# EAGLE library part EPF10K100A-P240 (library altera)
EPF10K100 FLEX 10K family
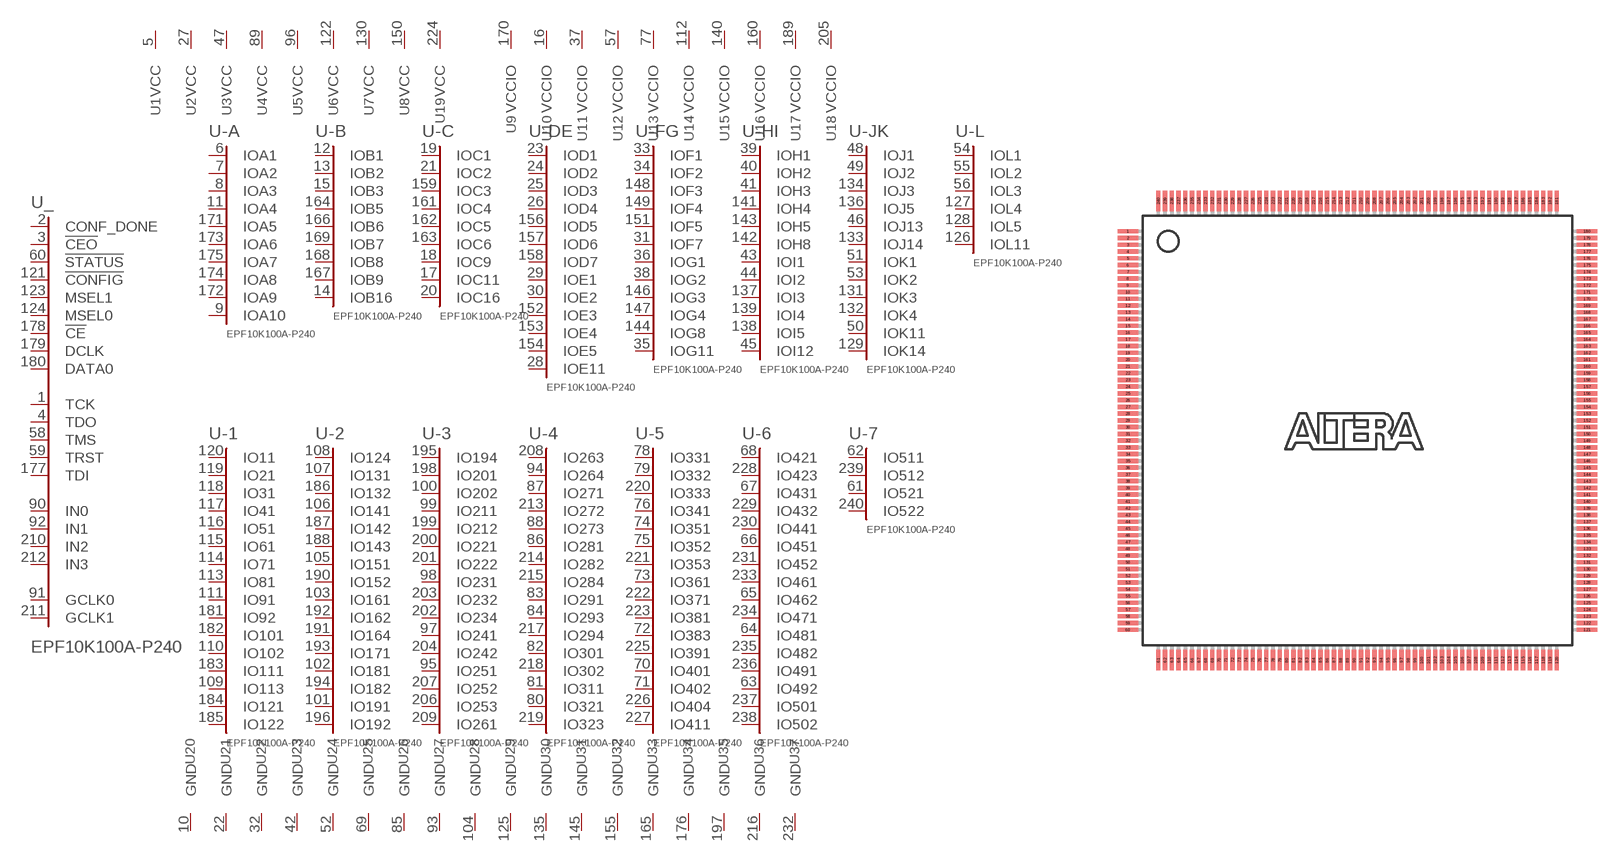
[diagram p42: symbol with the pads of PQFP240; footprint PQFP240]

Designator prefix U; gates _=100R240C -A=A10-10 -B=B16-100 -C=C16-100 -DE=D7E11 -FG=F7G11 -HI=H8I12 -JK=J14K14 -L=L11-100 -1=122-100R -2=192-100R -3=261-100R -4=323-100R -5=411-100R -6=502-100R -7=522-100R 1=VCCINT 2=VCCINT 3=VCCINT 4=VCCINT 5=VCCINT 6=VCCINT 7=VCCINT 8=VCCINT 9=VCCIO 10=VCCIO 11=VCCIO 12=VCCIO 13=VCCIO 14=VCCIO 15=VCCIO 16=VCCIO 17=VCCIO 18=VCCIO 20=GND 21=GND 22=GND 23=GND 24=GND 25=GND 26=GND 27=GND 28=GND 29=GND 30=GND 31=GND 32=GND 33=GND 34=GND 35=GND 36=GND 37=GND 19=VCC

## EPF10K100A-P240  [PQFP240]
1  _:TCK
2  _:CONF_DONE  in
3  _:!CEO!  in
4  _:TDO
5  1:VCC  pwr
6  -A:IOA1
7  -A:IOA2
8  -A:IOA3
9  -A:IOA10
10  20:GND  pwr
11  -A:IOA4
12  -B:IOB1
13  -B:IOB2
14  -B:IOB16
15  -B:IOB3
16  10:VCCIO  pwr
17  -C:IOC11
18  -C:IOC9
19  -C:IOC1
20  -C:IOC16
21  -C:IOC2
22  21:GND  pwr
23  -DE:IOD1
24  -DE:IOD2
25  -DE:IOD3
26  -DE:IOD4
27  2:VCC  pwr
28  -DE:IOE11
29  -DE:IOE1
30  -DE:IOE2
31  -FG:IOF7
32  22:GND  pwr
33  -FG:IOF1
34  -FG:IOF2
35  -FG:IOG11
36  -FG:IOG1
37  11:VCCIO  pwr
38  -FG:IOG2
39  -HI:IOH1
40  -HI:IOH2
41  -HI:IOH3
42  23:GND  pwr
43  -HI:IOI1
44  -HI:IOI2
45  -HI:IOI12
46  -JK:IOJ13
47  3:VCC  pwr
48  -JK:IOJ1
49  -JK:IOJ2
50  -JK:IOK11
51  -JK:IOK1
52  24:GND  pwr
53  -JK:IOK2
54  -L:IOL1
55  -L:IOL2
56  -L:IOL3
57  12:VCCIO  pwr
58  _:TMS
59  _:TRST
60  _:!STATUS!  in
61  -7:IO521
62  -7:IO511
63  -6:IO492
64  -6:IO481
65  -6:IO462
66  -6:IO451
67  -6:IO431
68  -6:IO421
69  25:GND  pwr
70  -5:IO401
71  -5:IO402
72  -5:IO383
73  -5:IO361
74  -5:IO351
75  -5:IO352
76  -5:IO341
77  13:VCCIO  pwr
78  -5:IO331
79  -5:IO332
80  -4:IO321
81  -4:IO311
82  -4:IO301
83  -4:IO291
84  -4:IO293
85  26:GND  pwr
86  -4:IO281
87  -4:IO271
88  -4:IO273
89  4:VCC  pwr
90  _:IN0  in
91  _:GCLK0  in
92  _:IN1  in
93  27:GND  pwr
94  -4:IO264
95  -3:IO251
96  5:VCC  pwr
97  -3:IO241
98  -3:IO231
99  -3:IO211
100  -3:IO202
101  -2:IO191
102  -2:IO181
103  -2:IO161
104  28:GND  pwr
105  -2:IO151
106  -2:IO141
107  -2:IO131
108  -2:IO124
109  -1:IO113
110  -1:IO102
111  -1:IO91
112  14:VCCIO  pwr
113  -1:IO81
114  -1:IO71
115  -1:IO61
116  -1:IO51
117  -1:IO41
118  -1:IO31
119  -1:IO21
120  -1:IO11
121  _:!CONFIG!  in
122  6:VCC  pwr
123  _:MSEL1  in
124  _:MSEL0  in
125  29:GND  pwr
126  -L:IOL11
127  -L:IOL4
128  -L:IOL5
129  -JK:IOK14
130  7:VCC  pwr
131  -JK:IOK3
132  -JK:IOK4
133  -JK:IOJ14
134  -JK:IOJ3
135  30:GND  pwr
136  -JK:IOJ5
137  -HI:IOI3
138  -HI:IOI5
139  -HI:IOI4
140  15:VCCIO  pwr
141  -HI:IOH4
142  -HI:IOH8
143  -HI:IOH5
144  -FG:IOG8
145  31:GND  pwr
146  -FG:IOG3
147  -FG:IOG4
148  -FG:IOF3
149  -FG:IOF4
150  8:VCC  pwr
151  -FG:IOF5
152  -DE:IOE3
153  -DE:IOE4
154  -DE:IOE5
155  32:GND  pwr
156  -DE:IOD5
157  -DE:IOD6
158  -DE:IOD7
159  -C:IOC3
160  16:VCCIO  pwr
161  -C:IOC4
162  -C:IOC5
163  -C:IOC6
164  -B:IOB5
165  33:GND  pwr
166  -B:IOB6
167  -B:IOB9
168  -B:IOB8
169  -B:IOB7
170  9:VCCIO  pwr
171  -A:IOA5
172  -A:IOA9
173  -A:IOA6
174  -A:IOA8
175  -A:IOA7
176  34:GND  pwr
177  _:TDI
178  _:!CE!  in
179  _:DCLK  in
180  _:DATA0  in
181  -1:IO92
182  -1:IO101
183  -1:IO111
184  -1:IO121
185  -1:IO122
186  -2:IO132
187  -2:IO142
188  -2:IO143
189  17:VCCIO  pwr
190  -2:IO152
191  -2:IO164
192  -2:IO162
193  -2:IO171
194  -2:IO182
195  -3:IO194
196  -2:IO192
197  35:GND  pwr
198  -3:IO201
199  -3:IO212
200  -3:IO221
201  -3:IO222
202  -3:IO234
203  -3:IO232
204  -3:IO242
205  18:VCCIO  pwr
206  -3:IO253
207  -3:IO252
208  -4:IO263
209  -3:IO261
210  _:IN2  in
211  _:GCLK1  in
212  _:IN3  in
213  -4:IO272
214  -4:IO282
215  -4:IO284
216  36:GND  pwr
217  -4:IO294
218  -4:IO302
219  -4:IO323
220  -5:IO333
221  -5:IO353
222  -5:IO371
223  -5:IO381
224  19:VCC  pwr
225  -5:IO391
226  -5:IO404
227  -5:IO411
228  -6:IO423
229  -6:IO432
230  -6:IO441
231  -6:IO452
232  37:GND  pwr
233  -6:IO461
234  -6:IO471
235  -6:IO482
236  -6:IO491
237  -6:IO501
238  -6:IO502
239  -7:IO512
240  -7:IO522

## Footprint PQFP240 (pad centres in mm)
Plastic Quad Flat Pack
smd 1.5 x 0.32: 1 -17,14.75; 2 -17,14.25; 3 -17,13.75; 4 -17,13.25; 5 -17,12.75; 6 -17,12.25; 7 -17,11.75; 8 -17,11.25; 9 -17,10.75; 10 -17,10.25; 11 -17,9.75; 12 -17,9.25; 13 -17,8.75; 14 -17,8.25; 15 -17,7.75; 16 -17,7.25; 17 -17,6.75; 18 -17,6.25; 19 -17,5.75; 20 -17,5.25; 21 -17,4.75; 22 -17,4.25; 23 -17,3.75; 24 -17,3.25; 25 -17,2.75; 26 -17,2.25; 27 -17,1.75; 28 -17,1.25; 29 -17,0.75; 30 -17,0.25; 31 -17,-0.25; 32 -17,-0.75; 33 -17,-1.25; 34 -17,-1.75; 35 -17,-2.25; 36 -17,-2.75; 37 -17,-3.25; 38 -17,-3.75; 39 -17,-4.25; 40 -17,-4.75; 41 -17,-5.25; 42 -17,-5.75; 43 -17,-6.25; 44 -17,-6.75; 45 -17,-7.25; 46 -17,-7.75; 47 -17,-8.25; 48 -17,-8.75; 49 -17,-9.25; 50 -17,-9.75; 51 -17,-10.25; 52 -17,-10.75; 53 -17,-11.25; 54 -17,-11.75; 55 -17,-12.25; 56 -17,-12.75; 57 -17,-13.25; 58 -17,-13.75; 59 -17,-14.25; 60 -17,-14.75; 121 17,-14.75; 122 17,-14.25; 123 17,-13.75; 124 17,-13.25; 125 17,-12.75; 126 17,-12.25; 127 17,-11.75; 128 17,-11.25; 129 17,-10.75; 130 17,-10.25; 131 17,-9.75; 132 17,-9.25; 133 17,-8.75; 134 17,-8.25; 135 17,-7.75; 136 17,-7.25; 137 17,-6.75; 138 17,-6.25; 139 17,-5.75; 140 17,-5.25; 141 17,-4.75; 142 17,-4.25; 143 17,-3.75; 144 17,-3.25; 145 17,-2.75; 146 17,-2.25; 147 17,-1.75; 148 17,-1.25; 149 17,-0.75; 150 17,-0.25; 151 17,0.25; 152 17,0.75; 153 17,1.25; 154 17,1.75; 155 17,2.25; 156 17,2.75; 157 17,3.25; 158 17,3.75; 159 17,4.25; 160 17,4.75; 161 17,5.25; 162 17,5.75; 163 17,6.25; 164 17,6.75; 165 17,7.25; 166 17,7.75; 167 17,8.25; 168 17,8.75; 169 17,9.25; 170 17,9.75; 171 17,10.25; 172 17,10.75; 173 17,11.25; 174 17,11.75; 175 17,12.25; 176 17,12.75; 177 17,13.25; 178 17,13.75; 179 17,14.25; 180 17,14.75
smd 0.32 x 1.5: 61 -14.75,-17; 62 -14.25,-17; 63 -13.75,-17; 64 -13.25,-17; 65 -12.75,-17; 66 -12.25,-17; 67 -11.75,-17; 68 -11.25,-17; 69 -10.75,-17; 70 -10.25,-17; 71 -9.75,-17; 72 -9.25,-17; 73 -8.75,-17; 74 -8.25,-17; 75 -7.75,-17; 76 -7.25,-17; 77 -6.75,-17; 78 -6.25,-17; 79 -5.75,-17; 80 -5.25,-17; 81 -4.75,-17; 82 -4.25,-17; 83 -3.75,-17; 84 -3.25,-17; 85 -2.75,-17; 86 -2.25,-17; 87 -1.75,-17; 88 -1.25,-17; 89 -0.75,-17; 90 -0.25,-17; 91 0.25,-17; 92 0.75,-17; 93 1.25,-17; 94 1.75,-17; 95 2.25,-17; 96 2.75,-17; 97 3.25,-17; 98 3.75,-17; 99 4.25,-17; 100 4.75,-17; 101 5.25,-17; 102 5.75,-17; 103 6.25,-17; 104 6.75,-17; 105 7.25,-17; 106 7.75,-17; 107 8.25,-17; 108 8.75,-17; 109 9.25,-17; 110 9.75,-17; 111 10.25,-17; 112 10.75,-17; 113 11.25,-17; 114 11.75,-17; 115 12.25,-17; 116 12.75,-17; 117 13.25,-17; 118 13.75,-17; 119 14.25,-17; 120 14.75,-17; 181 14.75,17; 182 14.25,17; 183 13.75,17; 184 13.25,17; 185 12.75,17; 186 12.25,17; 187 11.75,17; 188 11.25,17; 189 10.75,17; 190 10.25,17; 191 9.75,17; 192 9.25,17; 193 8.75,17; 194 8.25,17; 195 7.75,17; 196 7.25,17; 197 6.75,17; 198 6.25,17; 199 5.75,17; 200 5.25,17; 201 4.75,17; 202 4.25,17; 203 3.75,17; 204 3.25,17; 205 2.75,17; 206 2.25,17; 207 1.75,17; 208 1.25,17; 209 0.75,17; 210 0.25,17; 211 -0.25,17; 212 -0.75,17; 213 -1.25,17; 214 -1.75,17; 215 -2.25,17; 216 -2.75,17; 217 -3.25,17; 218 -3.75,17; 219 -4.25,17; 220 -4.75,17; 221 -5.25,17; 222 -5.75,17; 223 -6.25,17; 224 -6.75,17; 225 -7.25,17; 226 -7.75,17; 227 -8.25,17; 228 -8.75,17; 229 -9.25,17; 230 -9.75,17; 231 -10.25,17; 232 -10.75,17; 233 -11.25,17; 234 -11.75,17; 235 -12.25,17; 236 -12.75,17; 237 -13.25,17; 238 -13.75,17; 239 -14.25,17; 240 -14.75,17